# Altium footprint library Tiristor Triac.PcbLib: 18 footprints (part 2 of 2)
Each footprint in its own frame and in the unit in brackets; x right, y up, seen from the top. Pads: shape width x height; smd on the part's side, far side on the other; paste and mask are expansions set on the pad; w line width, h text height; cw(c..) or ccw(c..) is an arc to the next point about the centre after c.
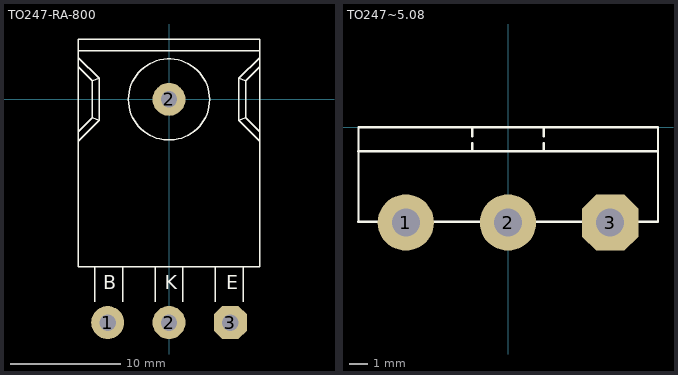
[diagram p1: the footprints below, top view; thin cyan lines are the x and y axes]

## TO247-RA-800 [mm]
pads (4):
  round 3 hole 1.5: 1(-5.588,-20.32) 2(0,-20.32) 2(0,0)
  oct 3x3 hole 1.5: 3(5.588,-20.32)
TopOverlay:
  circle w0.127: c0,0 r3.698
  lines w0.127: -8.255,-3.81 -6.35,-1.905 ; -8.255,-2.963 -6.985,-1.693 ; -8.255,2.963 -6.985,1.693 ; -8.255,3.81 -6.35,1.905 ; -8.255,4.445 8.255,4.445 ; -6.773,-18.415 -6.773,-15.24 ; -4.233,-18.415 -4.233,-15.24 ; -1.27,-18.415 -1.27,-15.24 ; 1.27,-18.415 1.27,-15.24 ; 4.233,-18.415 4.233,-15.24 ; 6.773,-18.415 6.773,-15.24 ; 8.255,-3.81 6.35,-1.905 ; 8.255,-2.963 6.985,-1.693 ; 8.255,2.963 6.985,1.693 ; 8.255,3.81 6.35,1.905 ; -6.985,-1.693 -6.985,1.693 ; -6.985,-1.693 -6.35,-1.905 ; -6.985,1.693 -6.35,1.905 ; -6.35,-1.905 -6.35,1.905 ; 6.35,-1.905 6.35,1.905 ; 6.35,-1.905 6.985,-1.693 ; 6.35,1.905 6.985,1.693 ; 6.985,-1.693 6.985,1.693 ; -8.255,-15.24 8.255,-15.24 8.255,5.5 -8.255,5.5 -8.255,-15.24
  text "B" at -5.969,-17.272 h1.27
  text "E" at 5.207,-17.272 h1.27
  text "K" at -0.381,-17.272 h1.27
3D body: height 4.9, standoff -7, extent -7.75,-20.62 7.75,5.5

## TO247~5.08 [mm]
pads (3):
  round 3 hole 1.5: 1(-5.45,-5.08) 2(0,-5.08)
  oct 3x3 hole 1.5: 3(5.45,-5.08)
TopOverlay:
  lines w0.127: -8,-5.03 8,-5.03 8,0 -7.975,0 -7.975,-5.03 ; -8,-1.27 8,-1.27 ; -1.905,-1.27 -1.905,-0.847 ; -1.905,-0.467 -1.905,0 ; 1.905,-1.27 1.905,-0.847 ; 1.905,-0.467 1.905,0
3D body: height 32, standoff -2, extent -7.975,-5.43 7.975,0